# Altium schematic symbol library 6903 6718 xx 72.SchLib: 12 symbols
Pins are listed as number, name and electrical type; pins without a type are passive.

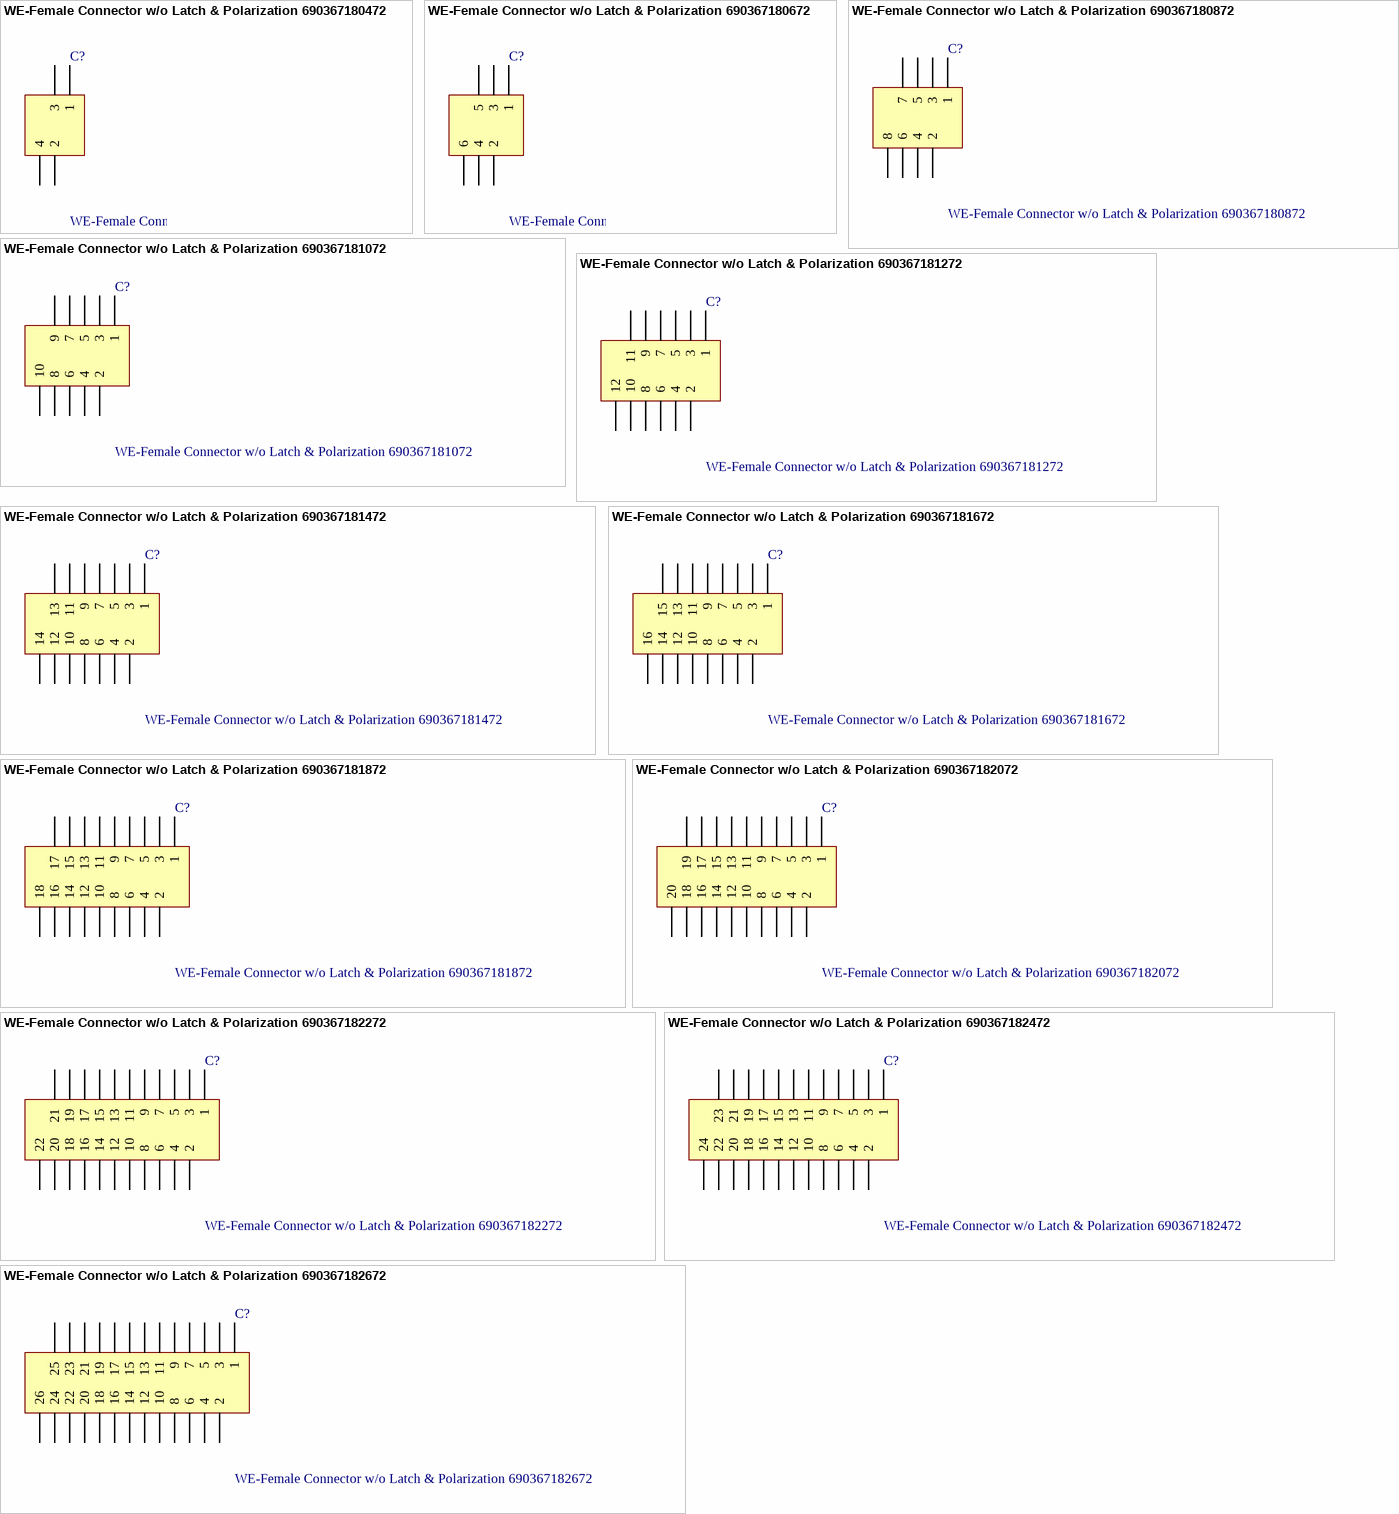
[diagram p0: symbols WE-Female Connector w/o Latch & Polarization 690367180472 to WE-Female Connector w/o Latch & Polarization 690367182672]

## WE-Female Connector w/o Latch & Polarization 690367180472
designator C?
WR-MM Female Connector w/o Latch & Polarization; Manufacturer: Würth Elektronik eiSos GmbH; ComponentLink1 Description: Manufacturer; ComponentLink2 Description: Datasheet; NoPins: 4; Created Date: 17 April 2013; partNo: 690367180472; ComponentLink1URL: http://www.we-online.com; ComponentLink2URL: http://katalog.we-online.de/em/datasheet/69036718xx72.pdf; Created by: Karrer Zheng
footprint 690367180472 (4 pins, straight)
pins: 1, 2, 3, 4

## WE-Female Connector w/o Latch & Polarization 690367180672
designator C?
WR-MM Female Connector w/o Latch & Polarization; Manufacturer: Würth Elektronik eiSos GmbH; ComponentLink1 Description: Manufacturer; ComponentLink2 Description: Datasheet; NoPins: 6; Created Date: 17 April 2013; partNo: 690367180672; ComponentLink1URL: http://www.we-online.com; ComponentLink2URL: http://katalog.we-online.de/em/datasheet/69036718xx72.pdf; Created by: Karrer Zheng
footprint 690367180672 (6 pins, straight)
pins: 1, 2, 3, 4, 5, 6

## WE-Female Connector w/o Latch & Polarization 690367180872
designator C?
WR-MM Female Connector w/o Latch & Polarization; Manufacturer: Würth Elektronik eiSos GmbH; ComponentLink1 Description: Manufacturer; ComponentLink2 Description: Datasheet; NoPins: 8; Created Date: 17 April 2013; partNo: 690367180872; ComponentLink1URL: http://www.we-online.com; ComponentLink2URL: http://katalog.we-online.de/em/datasheet/69036718xx72.pdf; Created by: Karrer Zheng
footprint 690367180872 (8 pins, straight)
pins: 1, 2, 3, 4, 5, 6, 7, 8

## WE-Female Connector w/o Latch & Polarization 690367181072
designator C?
WR-MM Female Connector w/o Latch & Polarization; Manufacturer: Würth Elektronik eiSos GmbH; ComponentLink1 Description: Manufacturer; ComponentLink2 Description: Datasheet; NoPins: 10; Created Date: 17 April 2013; partNo: 690367181072; ComponentLink1URL: http://www.we-online.com; ComponentLink2URL: http://katalog.we-online.de/em/datasheet/69036718xx72.pdf; Created by: Karrer Zheng
footprint 690367181072 (10 pins, straight)
pins: 1, 2, 3, 4, 5, 6, 7, 8, 9, 10

## WE-Female Connector w/o Latch & Polarization 690367181272
designator C?
WR-MM Female Connector w/o Latch & Polarization; Manufacturer: Würth Elektronik eiSos GmbH; ComponentLink1 Description: Manufacturer; ComponentLink2 Description: Datasheet; NoPins: 12; Created Date: 17 April 2013; partNo: 690367181272; ComponentLink1URL: http://www.we-online.com; ComponentLink2URL: http://katalog.we-online.de/em/datasheet/69036718xx72.pdf; Created by: Karrer Zheng
footprint 690367181272 (12 pins, straight)
pins: 1, 2, 3, 4, 5, 6, 7, 8, 9, 10, 11, 12

## WE-Female Connector w/o Latch & Polarization 690367181472
designator C?
WR-MM Female Connector w/o Latch & Polarization; Manufacturer: Würth Elektronik eiSos GmbH; ComponentLink1 Description: Manufacturer; ComponentLink2 Description: Datasheet; NoPins: 14; Created Date: 17 April 2013; partNo: 690367181472; ComponentLink1URL: http://www.we-online.com; ComponentLink2URL: http://katalog.we-online.de/em/datasheet/69036718xx72.pdf; Created by: Karrer Zheng
footprint 690367181472 (14 pins, straight)
pins: 1, 2, 3, 4, 5, 6, 7, 8, 9, 10, 11, 12, 13, 14

## WE-Female Connector w/o Latch & Polarization 690367181672
designator C?
WR-MM Female Connector w/o Latch & Polarization; Manufacturer: Würth Elektronik eiSos GmbH; ComponentLink1 Description: Manufacturer; ComponentLink2 Description: Datasheet; NoPins: 16; Created Date: 17 April 2013; partNo: 690367181672; ComponentLink1URL: http://www.we-online.com; ComponentLink2URL: http://katalog.we-online.de/em/datasheet/69036718xx72.pdf; Created by: Karrer Zheng
footprint 690367181672 (16 pins, straight)
pins: 1, 2, 3, 4, 5, 6, 7, 8, 9, 10, 11, 12, 13, 14, 15, 16

## WE-Female Connector w/o Latch & Polarization 690367181872
designator C?
WR-MM Female Connector w/o Latch & Polarization; Manufacturer: Würth Elektronik eiSos GmbH; ComponentLink1 Description: Manufacturer; ComponentLink2 Description: Datasheet; NoPins: 18; Created Date: 17 April 2013; partNo: 690367181872; ComponentLink1URL: http://www.we-online.com; ComponentLink2URL: http://katalog.we-online.de/em/datasheet/69036718xx72.pdf; Created by: Karrer Zheng
footprint 690367181872 (18 pins, straight)
pins: 1, 2, 3, 4, 5, 6, 7, 8, 9, 10, 11, 12, 13, 14, 15, 16, 17, 18

## WE-Female Connector w/o Latch & Polarization 690367182072
designator C?
WR-MM Female Connector w/o Latch & Polarization; Manufacturer: Würth Elektronik eiSos GmbH; ComponentLink1 Description: Manufacturer; ComponentLink2 Description: Datasheet; NoPins: 20; Created Date: 17 April 2013; partNo: 690367182072; ComponentLink1URL: http://www.we-online.com; ComponentLink2URL: http://katalog.we-online.de/em/datasheet/69036718xx72.pdf; Created by: Karrer Zheng
footprint 690367182072 (20 pins, straight)
pins: 1, 2, 3, 4, 5, 6, 7, 8, 9, 10, 11, 12, 13, 14, 15, 16, 17, 18, 19, 20

## WE-Female Connector w/o Latch & Polarization 690367182272
designator C?
WR-MM Female Connector w/o Latch & Polarization; Manufacturer: Würth Elektronik eiSos GmbH; ComponentLink1 Description: Manufacturer; ComponentLink2 Description: Datasheet; NoPins: 22; Created Date: 17 April 2013; partNo: 690367182272; ComponentLink1URL: http://www.we-online.com; ComponentLink2URL: http://katalog.we-online.de/em/datasheet/69036718xx72.pdf; Created by: Karrer Zheng
footprint 690367182272 (22 pins, straight)
pins: 1, 2, 3, 4, 5, 6, 7, 8, 9, 10, 11, 12, 13, 14, 15, 16, 17, 18, 19, 20, 21, 22

## WE-Female Connector w/o Latch & Polarization 690367182472
designator C?
WR-MM Female Connector w/o Latch & Polarization; Manufacturer: Würth Elektronik eiSos GmbH; ComponentLink1 Description: Manufacturer; ComponentLink2 Description: Datasheet; NoPins: 24; Created Date: 17 April 2013; partNo: 690367182472; ComponentLink1URL: http://www.we-online.com; ComponentLink2URL: http://katalog.we-online.de/em/datasheet/69036718xx72.pdf; Created by: Karrer Zheng
footprint 690367182472 (24 pins, straight)
pins: 1, 2, 3, 4, 5, 6, 7, 8, 9, 10, 11, 12, 13, 14, 15, 16, 17, 18, 19, 20, 21, 22, 23, 24

## WE-Female Connector w/o Latch & Polarization 690367182672
designator C?
WR-MM Female Connector w/o Latch & Polarization; Manufacturer: Würth Elektronik eiSos GmbH; ComponentLink1 Description: Manufacturer; ComponentLink2 Description: Datasheet; NoPins: 26; Created Date: 17 April 2013; partNo: 690367182672; ComponentLink1URL: http://www.we-online.com; ComponentLink2URL: http://katalog.we-online.de/em/datasheet/69036718xx72.pdf; Created by: Karrer Zheng
footprint 690367182672 (26 pins, straight)
pins: 1, 2, 3, 4, 5, 6, 7, 8, 9, 10, 11, 12, 13, 14, 15, 16, 17, 18, 19, 20, 21, 22, 23, 24, 25, 26